# Altium schematic symbol library Traslator, Level Shifters.SchLib: 1 symbol
Pins are listed as number, name and electrical type; pins without a type are passive.

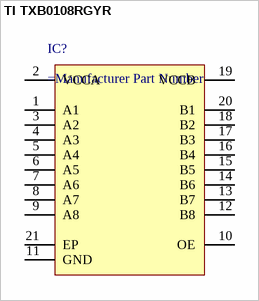
[diagram p0: symbol TI TXB0108RGYR]

## TI TXB0108RGYR
designator IC?
TXB0108 8-Bit Bidirectional Voltage-Level Translator with Auto-Direction Sensing and ±15kV ESD Protection; Manufacturer_Name: Texas Instruments; Manufacturer_Part_Number: TXB0108RGYR; Description: 8-Bit Bidirectional Voltage-Level Shifter with Auto Direction Sensing and +/-15-kV ESD Protect; Datasheet Link: http://www.ti.com/lit/gpn/txb0108; Height: 1mm; Mouser Part Number: 595-TXB0108RGYR; Mouser Price/Stock: https://www.mouser.co.uk/ProductDetail/Texas-Instruments/TXB0108RGYR?qs=oFXvjAmG9EjlwpBG6jCg6w%3D%3D; Arrow Part Number: TXB0108RGYR; Arrow Price/Stock: https://www.arrow.com/en/products/txb0108rgyr/texas-instruments?utm_currency=USD&region=nac
footprint TI VQFN-20 RHL
pins: 1 A1, 2 VCCA, 3 A2, 4 A3, 5 A4, 6 A5, 7 A6, 8 A7, 9 A8, 10 OE, 11 GND, 12 B8, 13 B7, 14 B6, 15 B5, 16 B4, 17 B3, 18 B2, 19 VCCB, 20 B1, 21 EP